# Altium schematic symbol library STACKUP.SchLib: 1 symbol
Pins are listed as number, name and electrical type; pins without a type are passive.

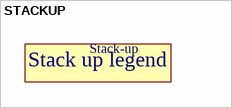
[diagram p0: symbol STACKUP]

## STACKUP
designator Stack-up  (value not drawn)  (no BOM)
text: Stack up legend